# Altium schematic symbol library BQ21040DBVR.SchLib: 2 symbols
Pins are listed as number, name and electrical type; pins without a type are passive.

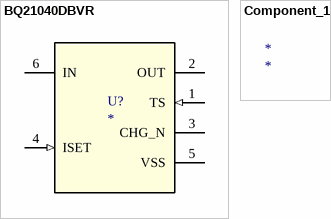
[diagram p0: symbols BQ21040DBVR to Component_1]

## BQ21040DBVR
designator U?
Imported; PartNumber: BQ21040DBVR; Manufacturer: Texas Instruments; RefDes: RefDes; TYPE: TYPE; Value: Value
footprint DBV0006A_N
pins: 1 TS (in), 2 OUT (power), 3 CHG_N (oc), 4 ISET (in), 5 VSS (power), 6 IN (power)

## Component_1
designator *